# Altium schematic symbol library CJS-1200TA.SchLib: 1 symbol
Pins are listed as number, name and electrical type; pins without a type are passive.

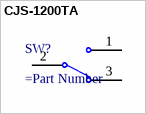
[diagram p0: symbol CJS-1200TA]

## CJS-1200TA
designator SW?
=Description
pins: 1, 2, 3